# EAGLE library part 3.5_TOUCHSCREEN (library Controller Board)
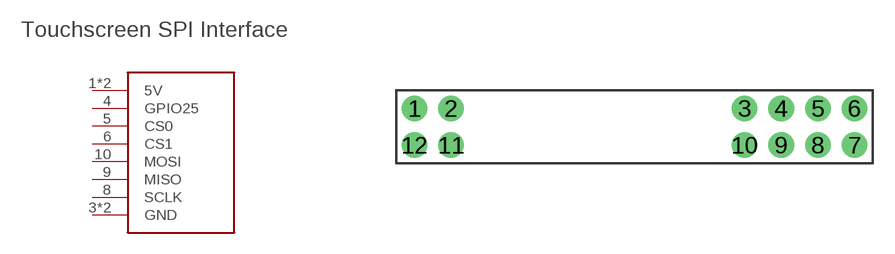
[diagram p4: symbol with the pads of 3.5_TOUCHSCREEN; footprint 3.5_TOUCHSCREEN]

Designator prefix -

## 3.5_TOUCHSCREEN  [3.5_TOUCHSCREEN]
1  5V
2  5V
3  GND
4  GPIO25
5  CS0
6  CS1
7  GND
8  SCLK
9  MISO
10  MOSI

## Footprint 3.5_TOUCHSCREEN (pad centres in mm)
drill 1 pad 1.778: 1 -12.7,1.27; 2 -10.16,1.27; 3 10.16,1.27; 4 12.7,1.27; 5 15.24,1.27; 6 17.78,1.27; 7 17.78,-1.27; 8 15.24,-1.27; 9 12.7,-1.27; 10 10.16,-1.27; 11 -10.16,-1.27; 12 -12.7,-1.27